# Altium footprint library DIP-6.PcbLib: 1 footprints
Each footprint in its own frame and in the unit in brackets; x right, y up, seen from the top. Pads: shape width x height; smd on the part's side, far side on the other; paste and mask are expansions set on the pad; w line width, h text height; cw(c..) or ccw(c..) is an arc to the next point about the centre after c.
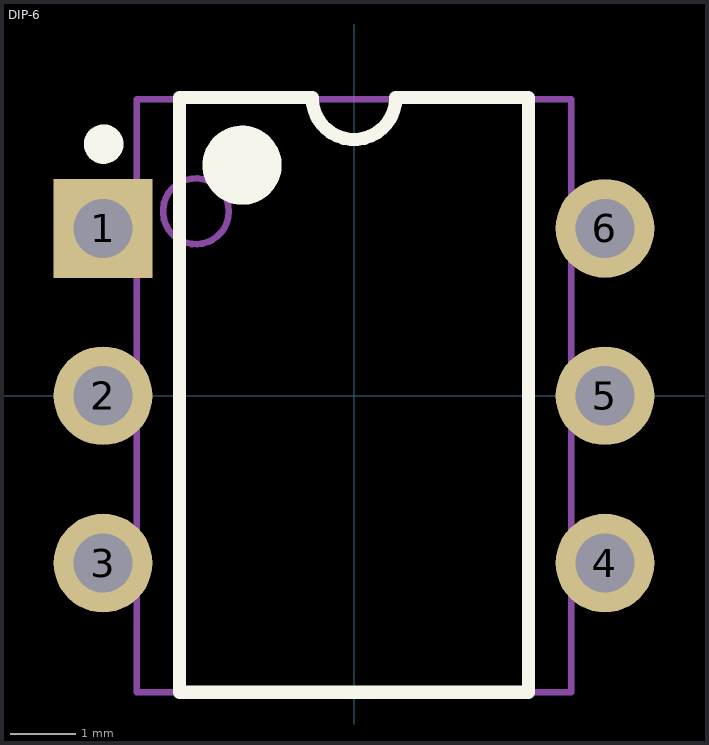
[diagram p0: the footprint, top view; thin cyan lines are the x and y axes]

## DIP-6 [mm]
pads (6):
  rect 1.5x1.5 hole 0.9: 1(-3.81,2.54)
  round 1.5 hole 0.9: 2(-3.81,0) 3(-3.81,-2.54) 4(3.81,-2.54) 5(3.81,0) 6(3.81,2.54)
Top Overlay:
  circle w0.3: c-3.8,3.82 r0.15
  circle w0.6: c-1.7,3.5 r0.3
  lines w0.2: -2.65,-4.5 2.65,-4.5 2.65,4.525 0.635,4.525 cw(c0,4.525) -0.635,4.525 -2.65,4.525 -2.65,-4.5
Mechanical 13:
  circle w0.1: c-2.4,2.8 r0.5
  lines w0.1: -3.3,-4.5 3.3,-4.5 3.3,4.5 -3.3,4.5 -3.3,-4.5